# Altium schematic symbol library Schlib_crystal.SchLib: 1 symbol
Pins are listed as number, name and electrical type; pins without a type are passive.

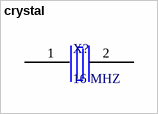
[diagram p0: symbol crystal]

## crystal
designator X?, comment 16 MHZ
16MHz ±30ppm ±50ppm HC-49S-SMD Crystals ROHS; manufactor: ECS; manufactor part number: ECS-160-S-5P-TR; ComponentLink1Description: snapeda link; ComponentLink1URL: https://www.snapeda.com/parts/ECS-160-S-5P-TR/ECS%20International/view-part/?ref=search&t=16MHZ%20crystl; ComponentLink2Description: datasheet; ComponentLink2URL: https://www.lcsc.com/datasheet/lcsc_datasheet_2211020230_ECS-ECS-160-S-5P-TR_C2450888.pdf; ComponentLink3Description: LCSC link; ComponentLink3URL: https://www.lcsc.com/product-detail/Crystals_span-style-background-color-ff0-ECS-span-ECS-160-S-5P-TR_C2450888.html; supplier: LCSC; supplier part number: C2450888
footprint PCBComponent_1
pins: 1, 2